# EAGLE library part 645010114822 (library WR-WTB)
WR-WTB 3.96 mm Male Vertical Locking Header Material Properties Insulator Material PA66 Insulator Flammability Rating UL94 V-2 Color White Contact Material Copper Alloy Contact Plating Tin Contact Type Stamped Certification UL Approval E323964 General Information Operating Temperature -40 °C up to +105 °C Compliance RoHS IR 7 A Working Voltage 250 V (AC) Withstanding Voltage 1500 V (AC) Contact Resistance 20 mΩ RISO 1000 MΩ Pitch 3.96 mm Gender Male Type Vertical Packaging Properties Packaging Bag <https://www.we-online.com/components/media/o33361v209%20Multi-WR-WTB396-6450xx114822.jpg> Details see: www.we-online.com/en/components/products/WTB_3_96_MALE_LOCKING_HEADER_6450XX114822 <www.we-online.com/catalog/WTB_3_96_MALE_LOCKING_HEADER_6450XX114822/?utm_source=eagle_model&utm_medium=description_link&utm_campaign=eisos_eagle> Updated by Ella 2025-03-06 2025 (C) Würth Elektronik
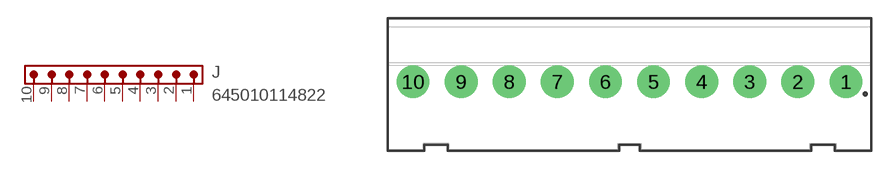
[diagram p38: symbol with the pads of 645010114822; footprint 645010114822]

Designator prefix J

## 645010114822 (CONTACT-RESISTANCE: 20mOhm; DATASHEET-URL: https://www.we-online.com/redexpert/spec/645010114822?ae; GENDER: Male; IR: 7A; L: 39.6mm; MOUNT: THT; PACKAGING: Bag; PART-NUMBER: 645010114822; PCB-CABLE-PANEL: PCB; PINS: 10; PITCH: 3.96mm; TYPE: Vertical; VALUE: 645010114822; WORKING-VOLTAGE: 250V(AC))  [645010114822]
1  1  pas
2  2  pas
3  3  pas
4  4  pas
5  5  pas
6  6  pas
7  7  pas
8  8  pas
9  9  pas
10  10  pas

## Footprint 645010114822 (pad centres in mm)
WR-WTB 3.96 mm Male Vertical Locking Header, 10 Pins
drill 1.8: 1 17.82,0.5; 2 13.86,0.5; 3 9.9,0.5; 4 5.94,0.5; 5 1.98,0.5; 6 -1.98,0.5; 7 -5.94,0.5; 8 -9.9,0.5; 9 -13.86,0.5; 10 -17.82,0.5